# EAGLE library part HEF4044BP (library NXP_By_element14_Batch_1)
Quad R/S latch with 3-state outputs
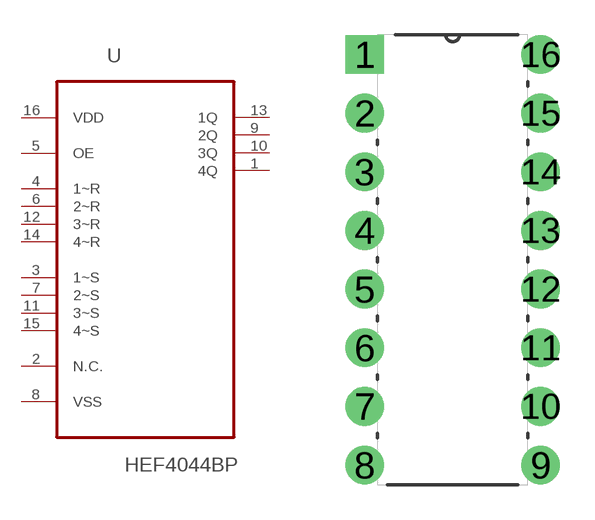
[diagram p253: symbol with the pads of DIP254P762X420-16; footprint DIP254P762X420-16]

Designator prefix U

## HEF4044BP (MPN: HEF4044BP; OC_FARNELL: 385190; OC_NEWARK: 10WX5437; P1I: o; PACKAGE: DIP-16; SUPPLIER: NXP)  [DIP254P762X420-16]
1  4Q  out
2  N.C.  nc
3  1~S  in
4  1~R  in
5  OE  in
6  2~R  in
7  2~S  in
8  VSS  pas
9  2Q  out
10  3Q  out
11  3~S  in
12  3~R  in
13  1Q  out
14  4~R  in
15  4~S  in
16  VDD  pwr

## Footprint DIP254P762X420-16 (pad centres in mm)
drill 1.118 square: 1 -7.62,17.78
drill 1.118: 2 -7.62,15.24; 3 -7.62,12.7; 4 -7.62,10.16; 5 -7.62,7.62; 6 -7.62,5.08; 7 -7.62,2.54; 8 -7.62,0; 9 0,0; 10 0,2.54; 11 0,5.08; 12 0,7.62; 13 0,10.16; 14 0,12.7; 15 0,15.24; 16 0,17.78